# EAGLE library part MAKERSTICK (library MakerBot)
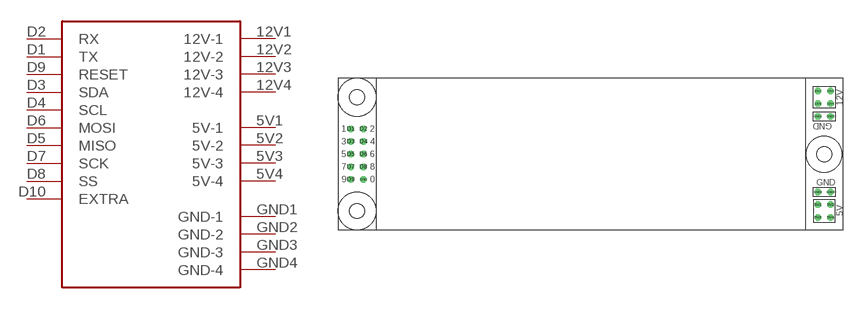
[diagram p4: symbol with the pads of MAKEITSTICK; footprint MAKEITSTICK]

Designator prefix -

## MAKERSTICK  [MAKEITSTICK]
5V1  5V-1
5V2  5V-2
5V3  5V-3
5V4  5V-4
12V1  12V-1
12V2  12V-2
12V3  12V-3
12V4  12V-4
D1  TX
D2  RX
D3  SDA
D4  SCL
D5  MISO
D6  MOSI
D7  SCK
D8  SS
D9  RESET
D10  EXTRA
GND1  GND-1
GND2  GND-2
GND3  GND-3
GND4  GND-4

## Footprint MAKEITSTICK (pad centres in mm)
drill 0.8 octagon: 5V1 96.52,5.08; 5V2 99.06,5.08; 5V3 96.52,2.54; 5V4 99.06,2.54; 12V1 96.52,27.94; 12V2 99.06,27.94; 12V3 96.52,25.4; 12V4 99.06,25.4; D1 2.54,20.32; D2 5.08,20.32; D3 2.54,17.78; D4 5.08,17.78; D5 2.54,15.24; D6 5.08,15.24; D7 2.54,12.7; D8 5.08,12.7; D9 2.54,10.16; D10 5.08,10.16; GND1 96.52,22.86; GND2 99.06,22.86; GND3 96.52,7.62; GND4 99.06,7.62
hole 3 at 3.81,26.67
hole 3 at 3.81,3.81
hole 3 at 97.79,15.24